# Altium footprint library axsem_rf_shield.PCBLIB: 1 footprints
Each footprint in its own frame and in the unit in brackets; x right, y up, seen from the top. Pads: shape width x height; smd on the part's side, far side on the other; paste and mask are expansions set on the pad; w line width, h text height; cw(c..) or ccw(c..) is an arc to the next point about the centre after c.
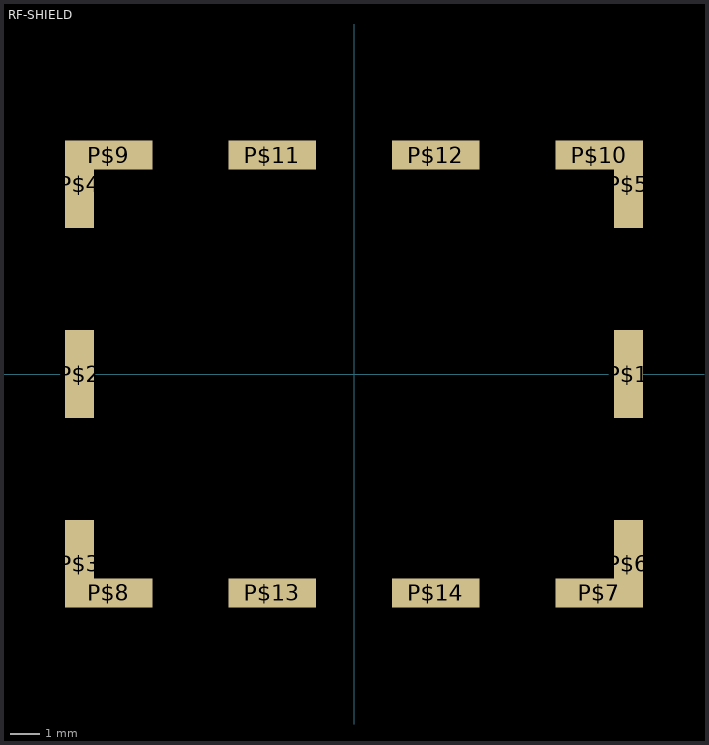
[diagram p0: the footprint, top view; thin cyan lines are the x and y axes]

## RF-SHIELD [mm]
pads (14):
  rect 1x3 smd: P$1(9.4,0) P$2(-9.4,0) P$3(-9.4,-6.5) P$4(-9.4,6.5) P$5(9.4,6.5) P$6(9.4,-6.5)
  rect 3x1 smd: P$7(8.4,-7.5) P$8(-8.4,-7.5) P$9(-8.4,7.5) P$10(8.4,7.5) P$11(-2.8,7.5) P$12(2.8,7.5) P$13(-2.8,-7.5) P$14(2.8,-7.5)